# Altium footprint library PLA10AN5521R0R2B.PcbLib: 1 footprints
Each footprint in its own frame and in the unit in brackets; x right, y up, seen from the top. Pads: shape width x height; smd on the part's side, far side on the other; paste and mask are expansions set on the pad; w line width, h text height; cw(c..) or ccw(c..) is an arc to the next point about the centre after c.
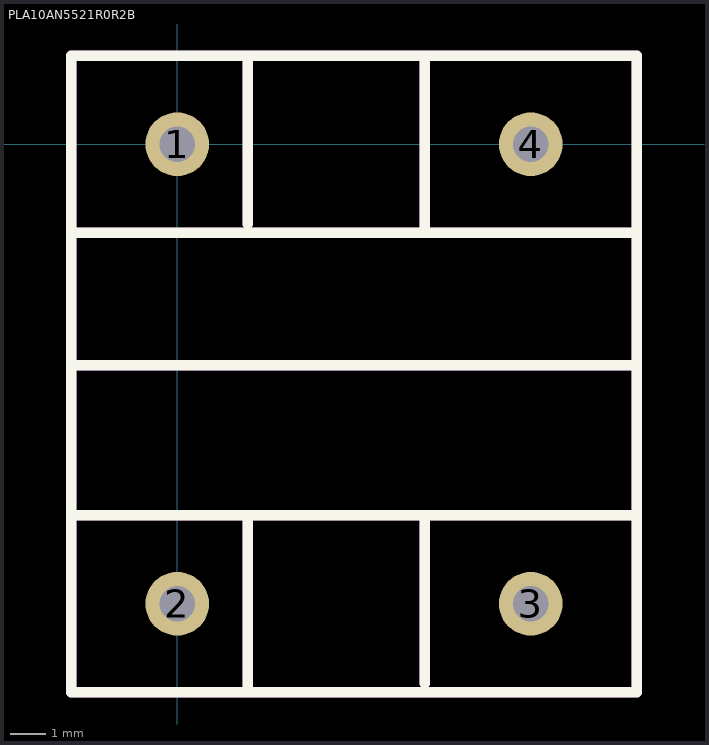
[diagram p0: the footprint, top view; thin cyan lines are the x and y axes]

## PLA10AN5521R0R2B [mm]
pads (4):
  round 1.8 hole 1: 1(0,0) 2(0,-13) 3(10,-13) 4(10,0)
Top Overlay:
  lines w0.3: -3,-10.5 13,-10.5 ; -3,-6.25 13,-6.25 ; -3,-2.5 13,-2.5 ; 2,-15.5 2,-10.5 ; 2,-2.25 2,2.5 ; 7,-15.25 7,-10.5 ; 7,-2.5 7,2.5 ; -3,-15.5 -3,2.5 13,2.5 13,-15.5 -3,-15.5
TopAssy:
  lines w0.3: -3,-10.5 13,-10.5 ; -3,-6.25 13,-6.25 ; -3,-2.5 13,-2.5 ; 2,-15.5 2,-10.5 ; 2,-2.25 2,2.5 ; 7,-15.25 7,-10.5 ; 7,-2.5 7,2.5 ; -3,-15.5 13,-15.5 13,2.5 -3,2.5 -3,-15.5
3D body "User Library-PLA10-1.STEP": height 16.3, standoff -3.3, extent -2.5,-14.885 12.5,1.907